# EAGLE library part OPA1662AIDGKR (library open_covg)
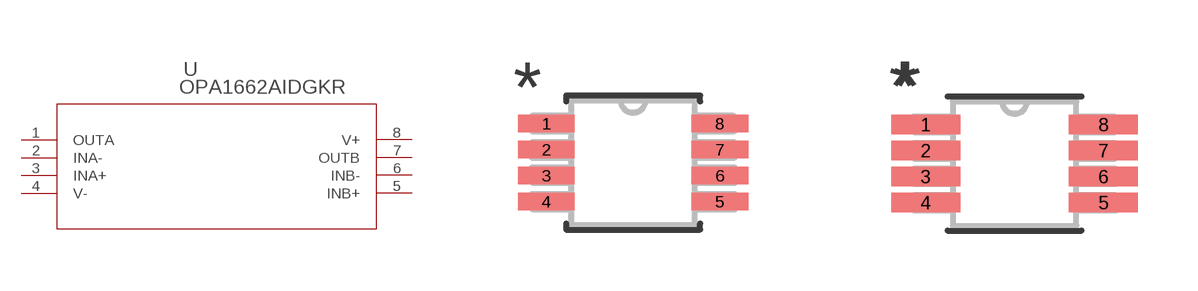
[diagram p13: symbol with the pads of DGK8; footprints DGK8, DGK8-M]

Designator prefix U

## OPA1662AIDGKR (BUILT_BY: EMA_UL_Team; MANUFACTURER: Texas Instruments; MANUFACTURER_PART_NUMBER: OPA1662AIDGKR; VENDOR: Texas Instruments)  [DGK8]
1  OUTA  out
2  INA-  in
3  INA+  in
4  V-  pwr
5  INB+  in
6  INB-  in
7  OUTB  out
8  V+  pwr

## OPA1662AIDGKRDGK8-M (BUILT_BY: EMA_UL_Team; MANUFACTURER: Texas Instruments; MANUFACTURER_PART_NUMBER: OPA1662AIDGKR; VENDOR: Texas Instruments)  [DGK8-M]
Pads as for DGK8

## OPA1662AIDGKRDGK8-L (BUILT_BY: EMA_UL_Team; MANUFACTURER: Texas Instruments; MANUFACTURER_PART_NUMBER: OPA1662AIDGKR; VENDOR: Texas Instruments)  [DGK8-L]
Pads as for DGK8

## Footprint DGK8 (pad centres in mm)
smd 1.422 x 0.432: 1 -2.172,0.975; 2 -2.172,0.325; 3 -2.172,-0.325; 4 -2.172,-0.975; 5 2.172,-0.975; 6 2.172,-0.325; 7 2.172,0.325; 8 2.172,0.975

## Footprint DGK8-M (pad centres in mm)
smd 1.727 x 0.483: 1 -2.223,0.975; 2 -2.223,0.325; 3 -2.223,-0.325; 4 -2.223,-0.975; 5 2.223,-0.975; 6 2.223,-0.325; 7 2.223,0.325; 8 2.223,0.975

## Footprint DGK8-L (pad centres in mm)
smd 1.118 x 0.381: 1 -2.121,0.975; 2 -2.121,0.325; 3 -2.121,-0.325; 4 -2.121,-0.975; 5 2.121,-0.975; 6 2.121,-0.325; 7 2.121,0.325; 8 2.121,0.975